# Altium integrated library ON Semi General Purpose Transistors.IntLib: 1679 symbols (part 19 of 36)
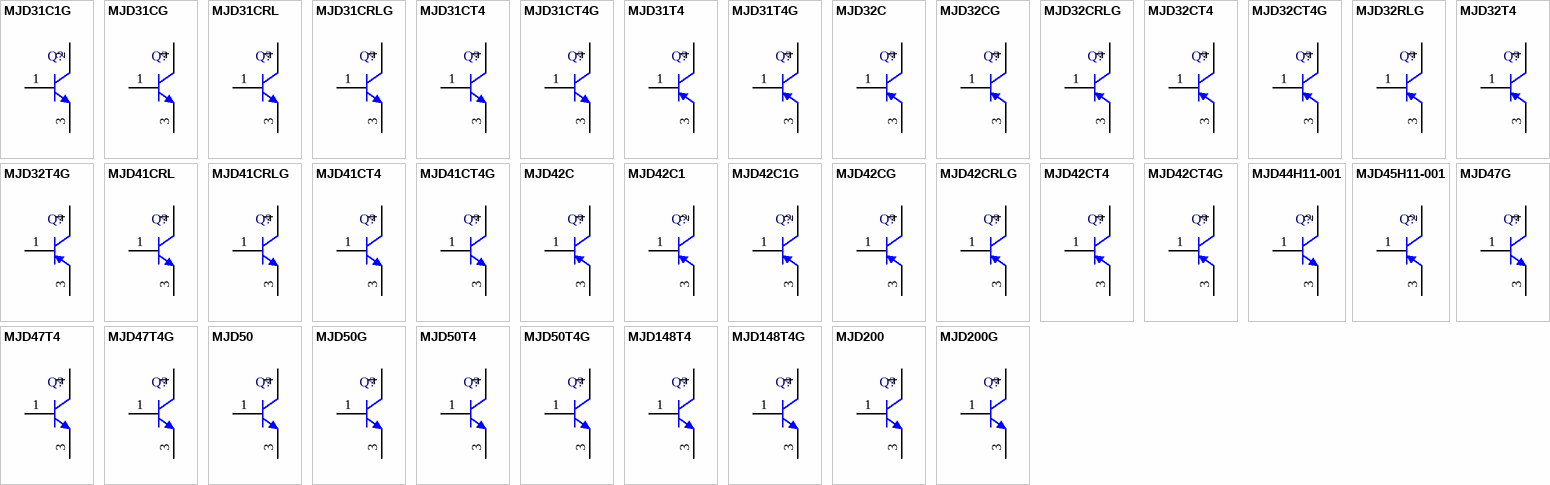
[diagram p63: symbols MJD31C1G to MJD200G]

## MJD41CT4G
designator Q?
Complementary Power Transistor, 3-Pin DPAK, Pb-Free, Tape and Reel; Manufacturer: On Semiconductor; PartNumber: MJD41CT4G; fT Min (MHz): 3; IC Continuous (A): 6; Polarity: NPN; DatasheetVersion: Rev. 12; PackageVersion: Rev. E, 02/2014; PackageReference: DPAK-3-369C-01; PackageDescription: 3-Pin Flange Mount, Body 6.54 x 6.095 mm, Pitch 2.29 mm; Supplier 1: Digi-Key; Supplier Part Number 1: MJD41CT4GOSTR-ND; Supplier 2: Digi-Key; Supplier Part Number 2: MJD41CT4GOSCT-ND; Supplier 3: Digi-Key; Supplier Part Number 3: MJD41CT4GOSDKR-ND; Supplier 4: Newark; Supplier Part Number 4: 10N9473; Supplier 5: Mouser; Supplier Part Number 5: 863-MJD41CT4G; Packing: Tape and Reel; RoHS: TRUE; Mounting Technology: Surface Mount; ComponentLink1Description: Manufacturer URL; ComponentLink1URL: http://www.onsemi.com/; ComponentLink2Description: Datasheet; ComponentLink2URL: http://www.onsemi.cn/pub_link/Collateral/MJD41C-D.PDF; ComponentLink3Description: Package Specification; ComponentLink3URL: http://www.onsemi.cn/pub_link/Collateral/369C.PDF
footprint ONSC-DPAK-3-369C-01_V (DPAK, 3-Leads, Body 6.54x6.095mm, Pitch 2.29mm)
pins: 1 B, 3 E, 4 C

## MJD42C
designator Q?
Complementary Power Transistor, 3-Pin DPAK, Tube; Manufacturer: On Semiconductor; PartNumber: MJD42C; fT Min (MHz): 3; IC Continuous (A): 6; Polarity: PNP; DatasheetVersion: Rev. 12; PackageVersion: Rev. E, 02/2014; PackageReference: DPAK-3-369C-01; PackageDescription: 3-Pin Flange Mount, Body 6.54 x 6.095 mm, Pitch 2.29 mm; Supplier 1: Digi-Key; Supplier Part Number 1: MJD42C-ND; Packing: Tube; RoHS: FALSE; Mounting Technology: Surface Mount; ComponentLink1Description: Manufacturer URL; ComponentLink1URL: http://www.onsemi.com/; ComponentLink2Description: Datasheet; ComponentLink2URL: http://www.onsemi.cn/pub_link/Collateral/MJD41C-D.PDF; ComponentLink3Description: Package Specification; ComponentLink3URL: http://www.onsemi.cn/pub_link/Collateral/369C.PDF
footprint ONSC-DPAK-3-369C-01_V (DPAK, 3-Leads, Body 6.54x6.095mm, Pitch 2.29mm)
pins: 1 B, 3 E, 4 C

## MJD42C1
designator Q?
Complementary Power Transistor, 3-Pin IPAK, Tube; Manufacturer: On Semiconductor; PartNumber: MJD42C1; fT Min (MHz): 3; IC Continuous (A): 6; Polarity: PNP; DatasheetVersion: Rev. 12; PackageVersion: Rev. C, 12/2010; PackageReference: IPAK-3-369D-01; PackageDescription: 3-Pin Flange Mount, Vertical Straight Lead, Body 6.54 x 2.285 mm, Pitch 2.29 mm; Supplier 1: Digi-Key; Supplier Part Number 1: MJD42C1-ND; Supplier 2: Mouser; Supplier Part Number 2: 863-MJD42C1; Packing: Tube; RoHS: FALSE; Mounting Technology: Through Hole; Code_JEDEC: TO-251; ComponentLink1Description: Manufacturer URL; ComponentLink1URL: http://www.onsemi.com/; ComponentLink2Description: Datasheet; ComponentLink2URL: http://www.onsemi.cn/pub_link/Collateral/MJD41C-D.PDF; ComponentLink3Description: Package Specification; ComponentLink3URL: http://www.onsemi.cn/pub_link/Collateral/369D.PDF
footprint ONSC-IPAK-3-369D-01 (FM, 3-Leads, Body 6.75x2.4mm, Pitch 2.29mm)
pins: 1 B, 2 C, 3 E

## MJD42C1G
designator Q?
Complementary Power Transistor, 3-Pin IPAK, Pb-Free, Tube; Manufacturer: On Semiconductor; PartNumber: MJD42C1G; fT Min (MHz): 3; IC Continuous (A): 6; Polarity: PNP; DatasheetVersion: Rev. 12; PackageVersion: Rev. C, 12/2010; PackageReference: IPAK-3-369D-01; PackageDescription: 3-Pin Flange Mount, Vertical Straight Lead, Body 6.54 x 2.285 mm, Pitch 2.29 mm; Supplier 1: Digi-Key; Supplier Part Number 1: MJD42C1G-ND; Supplier 2: Mouser; Supplier Part Number 2: 863-MJD42C1G; Packing: Tube; RoHS: TRUE; Mounting Technology: Through Hole; Code_JEDEC: TO-251; ComponentLink1Description: Manufacturer URL; ComponentLink1URL: http://www.onsemi.com/; ComponentLink2Description: Datasheet; ComponentLink2URL: http://www.onsemi.cn/pub_link/Collateral/MJD41C-D.PDF; ComponentLink3Description: Package Specification; ComponentLink3URL: http://www.onsemi.cn/pub_link/Collateral/369D.PDF
footprint ONSC-IPAK-3-369D-01 (FM, 3-Leads, Body 6.75x2.4mm, Pitch 2.29mm)
pins: 1 B, 2 C, 3 E

## MJD42CG
designator Q?
Complementary Power Transistor, 3-Pin DPAK, Pb-Free, Tube; Manufacturer: On Semiconductor; PartNumber: MJD42CG; fT Min (MHz): 3; IC Continuous (A): 6; Polarity: PNP; DatasheetVersion: Rev. 12; PackageVersion: Rev. E, 02/2014; PackageReference: DPAK-3-369C-01; PackageDescription: 3-Pin Flange Mount, Body 6.54 x 6.095 mm, Pitch 2.29 mm; Supplier 1: Digi-Key; Supplier Part Number 1: MJD42CGOS-ND; Supplier 2: Newark; Supplier Part Number 2: 42K1281; Supplier 3: Mouser; Supplier Part Number 3: 863-MJD42CG; Packing: Tube; RoHS: TRUE; Mounting Technology: Surface Mount; ComponentLink1Description: Manufacturer URL; ComponentLink1URL: http://www.onsemi.com/; ComponentLink2Description: Datasheet; ComponentLink2URL: http://www.onsemi.cn/pub_link/Collateral/MJD41C-D.PDF; ComponentLink3Description: Package Specification; ComponentLink3URL: http://www.onsemi.cn/pub_link/Collateral/369C.PDF
footprint ONSC-DPAK-3-369C-01_V (DPAK, 3-Leads, Body 6.54x6.095mm, Pitch 2.29mm)
pins: 1 B, 3 E, 4 C

## MJD42CRLG
designator Q?
Complementary Power Transistor, 3-Pin DPAK, Pb-Free, Tape and Reel; Manufacturer: On Semiconductor; PartNumber: MJD42CRLG; fT Min (MHz): 3; IC Continuous (A): 6; Polarity: PNP; DatasheetVersion: Rev. 12; PackageVersion: Rev. E, 02/2014; PackageReference: DPAK-3-369C-01; PackageDescription: 3-Pin Flange Mount, Body 6.54 x 6.095 mm, Pitch 2.29 mm; Supplier 1: Digi-Key; Supplier Part Number 1: MJD42CRLG-ND; Supplier 2: Mouser; Supplier Part Number 2: 863-MJD42CRLG; Packing: Tape and Reel; RoHS: TRUE; Mounting Technology: Surface Mount; ComponentLink1Description: Manufacturer URL; ComponentLink1URL: http://www.onsemi.com/; ComponentLink2Description: Datasheet; ComponentLink2URL: http://www.onsemi.cn/pub_link/Collateral/MJD41C-D.PDF; ComponentLink3Description: Package Specification; ComponentLink3URL: http://www.onsemi.cn/pub_link/Collateral/369C.PDF
footprint ONSC-DPAK-3-369C-01_V (DPAK, 3-Leads, Body 6.54x6.095mm, Pitch 2.29mm)
pins: 1 B, 3 E, 4 C

## MJD42CT4
designator Q?
Complementary Power Transistor, 3-Pin DPAK, Tape and Reel; Manufacturer: On Semiconductor; PartNumber: MJD42CT4; fT Min (MHz): 3; IC Continuous (A): 6; Polarity: PNP; DatasheetVersion: Rev. 12; PackageVersion: Rev. E, 02/2014; PackageReference: DPAK-3-369C-01; PackageDescription: 3-Pin Flange Mount, Body 6.54 x 6.095 mm, Pitch 2.29 mm; Supplier 1: Digi-Key; Supplier Part Number 1: MJD42CT4OSCT-ND; Supplier 2: Digi-Key; Supplier Part Number 2: MJD42CT4OSDKR-ND; Packing: Tape and Reel; RoHS: FALSE; Mounting Technology: Surface Mount; ComponentLink1Description: Manufacturer URL; ComponentLink1URL: http://www.onsemi.com/; ComponentLink2Description: Datasheet; ComponentLink2URL: http://www.onsemi.cn/pub_link/Collateral/MJD41C-D.PDF; ComponentLink3Description: Package Specification; ComponentLink3URL: http://www.onsemi.cn/pub_link/Collateral/369C.PDF
footprint ONSC-DPAK-3-369C-01_V (DPAK, 3-Leads, Body 6.54x6.095mm, Pitch 2.29mm)
pins: 1 B, 3 E, 4 C

## MJD42CT4G
designator Q?
Complementary Power Transistor, 3-Pin DPAK, Pb-Free, Tape and Reel; Manufacturer: On Semiconductor; PartNumber: MJD42CT4G; fT Min (MHz): 3; IC Continuous (A): 6; Polarity: PNP; DatasheetVersion: Rev. 12; PackageVersion: Rev. E, 02/2014; PackageReference: DPAK-3-369C-01; PackageDescription: 3-Pin Flange Mount, Body 6.54 x 6.095 mm, Pitch 2.29 mm; Supplier 1: Digi-Key; Supplier Part Number 1: MJD42CT4GOSTR-ND; Supplier 2: Digi-Key; Supplier Part Number 2: MJD42CT4GOSCT-ND; Supplier 3: Digi-Key; Supplier Part Number 3: MJD42CT4GOSDKR-ND; Supplier 4: Farnell; Supplier Part Number 4: 2101378; Supplier 5: Newark; Supplier Part Number 5: 71J5855; Supplier 6: Mouser; Supplier Part Number 6: 863-MJD42CT4G; Packing: Tape and Reel; RoHS: TRUE; Mounting Technology: Surface Mount; ComponentLink1Description: Manufacturer URL; ComponentLink1URL: http://www.onsemi.com/; ComponentLink2Description: Datasheet; ComponentLink2URL: http://www.onsemi.cn/pub_link/Collateral/MJD41C-D.PDF; ComponentLink3Description: Package Specification; ComponentLink3URL: http://www.onsemi.cn/pub_link/Collateral/369C.PDF
footprint ONSC-DPAK-3-369C-01_V (DPAK, 3-Leads, Body 6.54x6.095mm, Pitch 2.29mm)
pins: 1 B, 3 E, 4 C

## MJD44H11-001
designator Q?
Complementary Power Transistor, 3-Pin IPAK, Tube; Manufacturer: On Semiconductor; PartNumber: MJD44H11-001; IC Continuous (A): 8; Polarity: NPN; DatasheetVersion: Rev. 16; PackageVersion: Rev. C, 12/2010; PackageReference: IPAK-3-369D-01; PackageDescription: 3-Pin Flange Mount, Vertical Straight Lead, Body 6.54 x 2.285 mm, Pitch 2.29 mm; Supplier 1: Digi-Key; Supplier Part Number 1: MJD44H11-001OS-ND; Supplier 2: Mouser; Supplier Part Number 2: 863-MJD44H11-001; Packing: Tube; RoHS: FALSE; Mounting Technology: Through Hole; Code_JEDEC: TO-251; ComponentLink1Description: Manufacturer URL; ComponentLink1URL: http://www.onsemi.com/; ComponentLink2Description: Datasheet; ComponentLink2URL: http://www.onsemi.cn/pub_link/Collateral/MJD44H11-D.PDF; ComponentLink3Description: Package Specification; ComponentLink3URL: http://www.onsemi.cn/pub_link/Collateral/369D.PDF
footprint ONSC-IPAK-3-369D-01 (FM, 3-Leads, Body 6.75x2.4mm, Pitch 2.29mm)
pins: 1 B, 2 C, 3 E

## MJD45H11-001
designator Q?
Complementary Power Transistor, 3-Pin IPAK, Tube; Manufacturer: On Semiconductor; PartNumber: MJD45H11-001; IC Continuous (A): 8; Polarity: PNP; DatasheetVersion: Rev. 16; PackageVersion: Rev. C, 12/2010; PackageReference: IPAK-3-369D-01; PackageDescription: 3-Pin Flange Mount, Vertical Straight Lead, Body 6.54 x 2.285 mm, Pitch 2.29 mm; Supplier 1: Digi-Key; Supplier Part Number 1: MJD45H11-001OS-ND; Supplier 2: Mouser; Supplier Part Number 2: 863-MJD45H11-001; Packing: Tube; RoHS: FALSE; Mounting Technology: Through Hole; Code_JEDEC: TO-251; ComponentLink1Description: Manufacturer URL; ComponentLink1URL: http://www.onsemi.com/; ComponentLink2Description: Datasheet; ComponentLink2URL: http://www.onsemi.cn/pub_link/Collateral/MJD44H11-D.PDF; ComponentLink3Description: Package Specification; ComponentLink3URL: http://www.onsemi.cn/pub_link/Collateral/369D.PDF
footprint ONSC-IPAK-3-369D-01 (FM, 3-Leads, Body 6.75x2.4mm, Pitch 2.29mm)
pins: 1 B, 2 C, 3 E

## MJD47G
designator Q?
High Voltage Power Transistor, 3-Pin DPAK, Pb-Free, Tube; Manufacturer: On Semiconductor; PartNumber: MJD47G; fT Min (MHz): 10; IC Continuous (A): 1; Polarity: NPN; DatasheetVersion: Rev. 14; PackageVersion: Rev. E, 02/2014; PackageReference: DPAK-3-369C-01; PackageDescription: 3-Pin Flange Mount, Body 6.54 x 6.095 mm, Pitch 2.29 mm; Supplier 1: Digi-Key; Supplier Part Number 1: MJD47GOS-ND; Supplier 2: Farnell; Supplier Part Number 2: 1147703; Supplier 3: Newark; Supplier Part Number 3: 42K1286; Supplier 4: Mouser; Supplier Part Number 4: 863-MJD47G; Packing: Tube; RoHS: TRUE; Mounting Technology: Surface Mount; ComponentLink1Description: Manufacturer URL; ComponentLink1URL: http://www.onsemi.com/; ComponentLink2Description: Datasheet; ComponentLink2URL: http://www.onsemi.cn/pub_link/Collateral/MJD47-D.PDF; ComponentLink3Description: Package Specification; ComponentLink3URL: http://www.onsemi.cn/pub_link/Collateral/369C.PDF
footprint ONSC-DPAK-3-369C-01_V (DPAK, 3-Leads, Body 6.54x6.095mm, Pitch 2.29mm)
pins: 1 B, 3 E, 4 C

## MJD47T4
designator Q?
High Voltage Power Transistor, 3-Pin DPAK, Tape and Reel; Manufacturer: On Semiconductor; PartNumber: MJD47T4; fT Min (MHz): 10; IC Continuous (A): 1; Polarity: NPN; DatasheetVersion: Rev. 14; PackageVersion: Rev. E, 02/2014; PackageReference: DPAK-3-369C-01; PackageDescription: 3-Pin Flange Mount, Body 6.54 x 6.095 mm, Pitch 2.29 mm; Supplier 1: Digi-Key; Supplier Part Number 1: MJD47T4OSCT-ND; Supplier 2: Digi-Key; Supplier Part Number 2: MJD47T4OSDKR-ND; Packing: Tape and Reel; RoHS: FALSE; Mounting Technology: Surface Mount; ComponentLink1Description: Manufacturer URL; ComponentLink1URL: http://www.onsemi.com/; ComponentLink2Description: Datasheet; ComponentLink2URL: http://www.onsemi.cn/pub_link/Collateral/MJD47-D.PDF; ComponentLink3Description: Package Specification; ComponentLink3URL: http://www.onsemi.cn/pub_link/Collateral/369C.PDF
footprint ONSC-DPAK-3-369C-01_V (DPAK, 3-Leads, Body 6.54x6.095mm, Pitch 2.29mm)
pins: 1 B, 3 E, 4 C

## MJD47T4G
designator Q?
High Voltage Power Transistor, 3-Pin DPAK, Pb-Free, Tape and Reel; Manufacturer: On Semiconductor; PartNumber: MJD47T4G; fT Min (MHz): 10; IC Continuous (A): 1; Polarity: NPN; DatasheetVersion: Rev. 14; PackageVersion: Rev. E, 02/2014; PackageReference: DPAK-3-369C-01; PackageDescription: 3-Pin Flange Mount, Body 6.54 x 6.095 mm, Pitch 2.29 mm; Supplier 1: Digi-Key; Supplier Part Number 1: MJD47T4GOSTR-ND; Supplier 2: Digi-Key; Supplier Part Number 2: MJD47T4GOSCT-ND; Supplier 3: Digi-Key; Supplier Part Number 3: MJD47T4GOSDKR-ND; Supplier 4: Farnell; Supplier Part Number 4: 2369093; Supplier 5: Newark; Supplier Part Number 5: 26K4446; Supplier 6: Newark; Supplier Part Number 6: 10N9475; Supplier 7: Mouser; Supplier Part Number 7: 863-MJD47T4G; Packing: Tape and Reel; RoHS: TRUE; Mounting Technology: Surface Mount; ComponentLink1Description: Manufacturer URL; ComponentLink1URL: http://www.onsemi.com/; ComponentLink2Description: Datasheet; ComponentLink2URL: http://www.onsemi.cn/pub_link/Collateral/MJD47-D.PDF; ComponentLink3Description: Package Specification; ComponentLink3URL: http://www.onsemi.cn/pub_link/Collateral/369C.PDF
footprint ONSC-DPAK-3-369C-01_V (DPAK, 3-Leads, Body 6.54x6.095mm, Pitch 2.29mm)
pins: 1 B, 3 E, 4 C

## MJD50
designator Q?
High Voltage Power Transistor, 3-Pin DPAK, Tube; Manufacturer: On Semiconductor; PartNumber: MJD50; fT Min (MHz): 10; IC Continuous (A): 1; Polarity: NPN; DatasheetVersion: Rev. 14; PackageVersion: Rev. E, 02/2014; PackageReference: DPAK-3-369C-01; PackageDescription: 3-Pin Flange Mount, Body 6.54 x 6.095 mm, Pitch 2.29 mm; Supplier 1: Digi-Key; Supplier Part Number 1: MJD50-ND; Packing: Tube; RoHS: FALSE; Mounting Technology: Surface Mount; ComponentLink1Description: Manufacturer URL; ComponentLink1URL: http://www.onsemi.com/; ComponentLink2Description: Datasheet; ComponentLink2URL: http://www.onsemi.cn/pub_link/Collateral/MJD47-D.PDF; ComponentLink3Description: Package Specification; ComponentLink3URL: http://www.onsemi.cn/pub_link/Collateral/369C.PDF
footprint ONSC-DPAK-3-369C-01_V (DPAK, 3-Leads, Body 6.54x6.095mm, Pitch 2.29mm)
pins: 1 B, 3 E, 4 C

## MJD50G
designator Q?
High Voltage Power Transistor, 3-Pin DPAK, Pb-Free, Tube; Manufacturer: On Semiconductor; PartNumber: MJD50G; fT Min (MHz): 10; IC Continuous (A): 1; Polarity: NPN; DatasheetVersion: Rev. 14; PackageVersion: Rev. E, 02/2014; PackageReference: DPAK-3-369C-01; PackageDescription: 3-Pin Flange Mount, Body 6.54 x 6.095 mm, Pitch 2.29 mm; Supplier 1: Digi-Key; Supplier Part Number 1: MJD50GOS-ND; Supplier 2: Farnell; Supplier Part Number 2: 9555870; Supplier 3: Newark; Supplier Part Number 3: 38K5601; Supplier 4: Newark; Supplier Part Number 4: 42K1287; Supplier 5: Mouser; Supplier Part Number 5: 863-MJD50G; Packing: Tube; RoHS: TRUE; Mounting Technology: Surface Mount; ComponentLink1Description: Manufacturer URL; ComponentLink1URL: http://www.onsemi.com/; ComponentLink2Description: Datasheet; ComponentLink2URL: http://www.onsemi.cn/pub_link/Collateral/MJD47-D.PDF; ComponentLink3Description: Package Specification; ComponentLink3URL: http://www.onsemi.cn/pub_link/Collateral/369C.PDF
footprint ONSC-DPAK-3-369C-01_V (DPAK, 3-Leads, Body 6.54x6.095mm, Pitch 2.29mm)
pins: 1 B, 3 E, 4 C

## MJD50T4
designator Q?
High Voltage Power Transistor, 3-Pin DPAK, Tape and Reel; Manufacturer: On Semiconductor; PartNumber: MJD50T4; fT Min (MHz): 10; IC Continuous (A): 1; Polarity: NPN; DatasheetVersion: Rev. 14; PackageVersion: Rev. E, 02/2014; PackageReference: DPAK-3-369C-01; PackageDescription: 3-Pin Flange Mount, Body 6.54 x 6.095 mm, Pitch 2.29 mm; Supplier 1: Digi-Key; Supplier Part Number 1: MJD50T4OSCT-ND; Supplier 2: Digi-Key; Supplier Part Number 2: MJD50T4OSDKR-ND; Packing: Tape and Reel; RoHS: FALSE; Mounting Technology: Surface Mount; ComponentLink1Description: Manufacturer URL; ComponentLink1URL: http://www.onsemi.com/; ComponentLink2Description: Datasheet; ComponentLink2URL: http://www.onsemi.cn/pub_link/Collateral/MJD47-D.PDF; ComponentLink3Description: Package Specification; ComponentLink3URL: http://www.onsemi.cn/pub_link/Collateral/369C.PDF
footprint ONSC-DPAK-3-369C-01_V (DPAK, 3-Leads, Body 6.54x6.095mm, Pitch 2.29mm)
pins: 1 B, 3 E, 4 C

## MJD50T4G
designator Q?
High Voltage Power Transistor, 3-Pin DPAK, Pb-Free, Tape and Reel; Manufacturer: On Semiconductor; PartNumber: MJD50T4G; fT Min (MHz): 10; IC Continuous (A): 1; Polarity: NPN; DatasheetVersion: Rev. 14; PackageVersion: Rev. E, 02/2014; PackageReference: DPAK-3-369C-01; PackageDescription: 3-Pin Flange Mount, Body 6.54 x 6.095 mm, Pitch 2.29 mm; Supplier 1: Digi-Key; Supplier Part Number 1: MJD50T4GOSTR-ND; Supplier 2: Digi-Key; Supplier Part Number 2: MJD50T4GOSCT-ND; Supplier 3: Digi-Key; Supplier Part Number 3: MJD50T4GOSDKR-ND; Supplier 4: Farnell; Supplier Part Number 4: 2317585; Supplier 5: Newark; Supplier Part Number 5: 06R3469; Supplier 6: Newark; Supplier Part Number 6: 71J5858; Supplier 7: Mouser; Supplier Part Number 7: 863-MJD50T4G; Packing: Tape and Reel; RoHS: TRUE; Mounting Technology: Surface Mount; ComponentLink1Description: Manufacturer URL; ComponentLink1URL: http://www.onsemi.com/; ComponentLink2Description: Datasheet; ComponentLink2URL: http://www.onsemi.cn/pub_link/Collateral/MJD47-D.PDF; ComponentLink3Description: Package Specification; ComponentLink3URL: http://www.onsemi.cn/pub_link/Collateral/369C.PDF
footprint ONSC-DPAK-3-369C-01_V (DPAK, 3-Leads, Body 6.54x6.095mm, Pitch 2.29mm)
pins: 1 B, 3 E, 4 C

## MJD148T4
designator Q?
NPN Silicon Power Transistor, 3-Pin DPAK, Tape and Reel; Manufacturer: On Semiconductor; PartNumber: MJD148T4; Note: 0; fT Min (MHz): 3; IC Continuous (A): 4; DatasheetVersion: Rev. 8; PackageVersion: Rev. E, 02/2014; PackageReference: DPAK-3-369C-01; PackageDescription: 3-Pin Flange Mount, Body 6.54 x 6.095 mm, Pitch 2.29 mm; Packing: Tape and Reel; Polarity: NPN; RoHS: FALSE; Mounting Technology: Surface Mount; ComponentLink1Description: Manufacturer URL; ComponentLink1URL: http://www.onsemi.com/; ComponentLink2Description: Datasheet; ComponentLink2URL: http://www.onsemi.cn/pub_link/Collateral/MJD148-D.PDF; ComponentLink3Description: Package Specification; ComponentLink3URL: http://www.onsemi.cn/pub_link/Collateral/369C.PDF
footprint ONSC-DPAK-3-369C-01_V (DPAK, 3-Leads, Body 6.54x6.095mm, Pitch 2.29mm)
pins: 1 B, 3 E, 4 C

## MJD148T4G
designator Q?
NPN Silicon Power Transistor, 3-Pin DPAK, Pb-Free, Tape and Reel; Manufacturer: On Semiconductor; PartNumber: MJD148T4G; fT Min (MHz): 3; IC Continuous (A): 4; DatasheetVersion: Rev. 8; PackageVersion: Rev. E, 02/2014; PackageReference: DPAK-3-369C-01; PackageDescription: 3-Pin Flange Mount, Body 6.54 x 6.095 mm, Pitch 2.29 mm; Supplier 1: Digi-Key; Supplier Part Number 1: MJD148T4GOSTR-ND; Supplier 2: Digi-Key; Supplier Part Number 2: MJD148T4GOSCT-ND; Supplier 3: Newark; Supplier Part Number 3: 42K1271; Supplier 4: Mouser; Supplier Part Number 4: 863-MJD148T4G; Packing: Tape and Reel; Polarity: NPN; RoHS: TRUE; Mounting Technology: Surface Mount; ComponentLink1Description: Manufacturer URL; ComponentLink1URL: http://www.onsemi.com/; ComponentLink2Description: Datasheet; ComponentLink2URL: http://www.onsemi.cn/pub_link/Collateral/MJD148-D.PDF; ComponentLink3Description: Package Specification; ComponentLink3URL: http://www.onsemi.cn/pub_link/Collateral/369C.PDF
footprint ONSC-DPAK-3-369C-01_V (DPAK, 3-Leads, Body 6.54x6.095mm, Pitch 2.29mm)
pins: 1 B, 3 E, 4 C

## MJD200
designator Q?
Complementary Plastic Power Transistor, NPN Silicon, 3-Pin DPAK, Tube; Manufacturer: On Semiconductor; PartNumber: MJD200; fT Min (MHz): 65; IC Continuous (A): 5; DatasheetVersion: Rev. 13; PackageVersion: Rev. E, 02/2014; PackageReference: DPAK-3-369C-01; PackageDescription: 3-Pin Flange Mount, Body 6.54 x 6.095 mm, Pitch 2.29 mm; Supplier 1: Digi-Key; Supplier Part Number 1: MJD200-ND; Packing: Tube; Polarity: NPN; RoHS: FALSE; Mounting Technology: Surface Mount; ComponentLink1Description: Manufacturer URL; ComponentLink1URL: http://www.onsemi.com/; ComponentLink2Description: Datasheet; ComponentLink2URL: http://www.onsemi.cn/pub_link/Collateral/MJD200-D.PDF; ComponentLink3Description: Package Specification; ComponentLink3URL: http://www.onsemi.cn/pub_link/Collateral/369C.PDF
footprint ONSC-DPAK-3-369C-01_V (DPAK, 3-Leads, Body 6.54x6.095mm, Pitch 2.29mm)
pins: 1 B, 3 E, 4 C

## MJD200G
designator Q?
Complementary Plastic Power Transistor, NPN Silicon, 3-Pin DPAK, Pb-Free, Tube; Manufacturer: On Semiconductor; PartNumber: MJD200G; fT Min (MHz): 65; IC Continuous (A): 5; DatasheetVersion: Rev. 13; PackageVersion: Rev. E, 02/2014; PackageReference: DPAK-3-369C-01; PackageDescription: 3-Pin Flange Mount, Body 6.54 x 6.095 mm, Pitch 2.29 mm; Supplier 1: Digi-Key; Supplier Part Number 1: MJD200GOS-ND; Supplier 2: Newark; Supplier Part Number 2: 45J1484; Supplier 3: Mouser; Supplier Part Number 3: 863-MJD200G; Packing: Tube; Polarity: NPN; RoHS: TRUE; Mounting Technology: Surface Mount; ComponentLink1Description: Manufacturer URL; ComponentLink1URL: http://www.onsemi.com/; ComponentLink2Description: Datasheet; ComponentLink2URL: http://www.onsemi.cn/pub_link/Collateral/MJD200-D.PDF; ComponentLink3Description: Package Specification; ComponentLink3URL: http://www.onsemi.cn/pub_link/Collateral/369C.PDF
footprint ONSC-DPAK-3-369C-01_V (DPAK, 3-Leads, Body 6.54x6.095mm, Pitch 2.29mm)
pins: 1 B, 3 E, 4 C

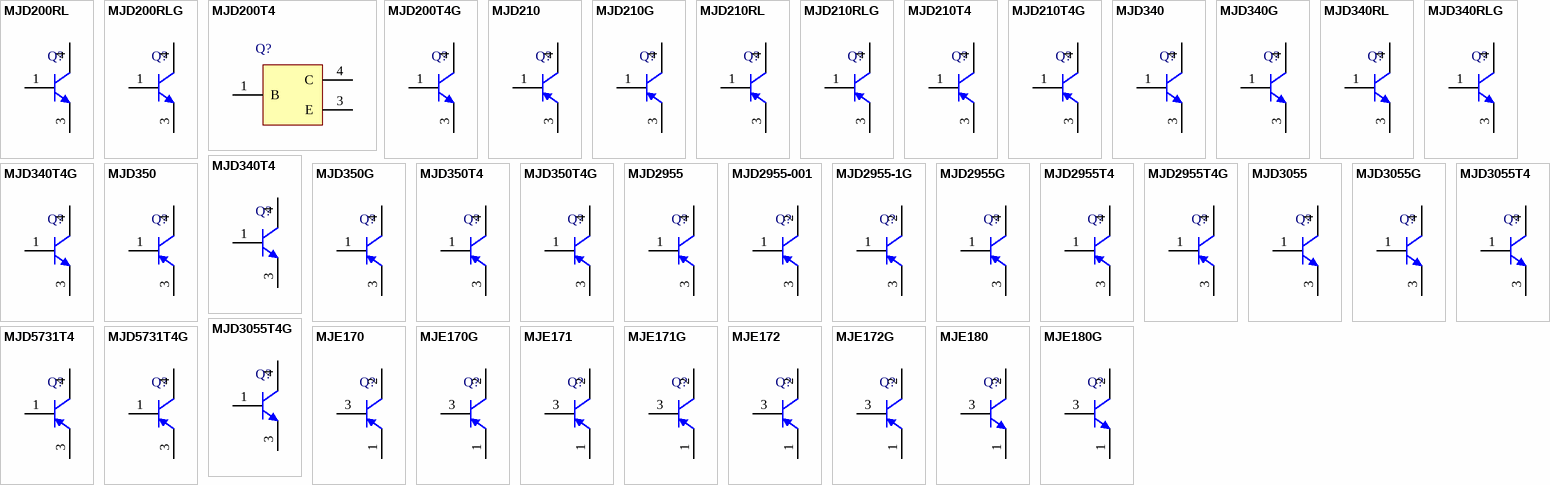
[diagram p24: symbols MJD200RL to MJE180G]

## MJD200RL
designator Q?
Complementary Plastic Power Transistor, NPN Silicon, 3-Pin DPAK, Tape and Reel; Manufacturer: On Semiconductor; PartNumber: MJD200RL; Note: 0; fT Min (MHz): 65; IC Continuous (A): 5; DatasheetVersion: Rev. 13; PackageVersion: Rev. E, 02/2014; PackageReference: DPAK-3-369C-01; PackageDescription: 3-Pin Flange Mount, Body 6.54 x 6.095 mm, Pitch 2.29 mm; Packing: Tape and Reel; Polarity: NPN; RoHS: FALSE; Mounting Technology: Surface Mount; ComponentLink1Description: Manufacturer URL; ComponentLink1URL: http://www.onsemi.com/; ComponentLink2Description: Datasheet; ComponentLink2URL: http://www.onsemi.cn/pub_link/Collateral/MJD200-D.PDF; ComponentLink3Description: Package Specification; ComponentLink3URL: http://www.onsemi.cn/pub_link/Collateral/369C.PDF
footprint ONSC-DPAK-3-369C-01_V (DPAK, 3-Leads, Body 6.54x6.095mm, Pitch 2.29mm)
pins: 1 B, 3 E, 4 C

## MJD200RLG
designator Q?
Complementary Plastic Power Transistor, NPN Silicon, 3-Pin DPAK, Pb-Free, Tape and Reel; Manufacturer: On Semiconductor; PartNumber: MJD200RLG; fT Min (MHz): 65; IC Continuous (A): 5; DatasheetVersion: Rev. 13; PackageVersion: Rev. E, 02/2014; PackageReference: DPAK-3-369C-01; PackageDescription: 3-Pin Flange Mount, Body 6.54 x 6.095 mm, Pitch 2.29 mm; Supplier 1: Digi-Key; Supplier Part Number 1: MJD200RLGOSTR-ND; Supplier 2: Digi-Key; Supplier Part Number 2: MJD200RLGOSCT-ND; Supplier 3: Digi-Key; Supplier Part Number 3: MJD200RLGOSDKR-ND; Supplier 4: Newark; Supplier Part Number 4: 45J1485; Supplier 5: Mouser; Supplier Part Number 5: 863-MJD200RLG; Packing: Tape and Reel; Polarity: NPN; RoHS: TRUE; Mounting Technology: Surface Mount; ComponentLink1Description: Manufacturer URL; ComponentLink1URL: http://www.onsemi.com/; ComponentLink2Description: Datasheet; ComponentLink2URL: http://www.onsemi.cn/pub_link/Collateral/MJD200-D.PDF; ComponentLink3Description: Package Specification; ComponentLink3URL: http://www.onsemi.cn/pub_link/Collateral/369C.PDF
footprint ONSC-DPAK-3-369C-01_V (DPAK, 3-Leads, Body 6.54x6.095mm, Pitch 2.29mm)
pins: 1 B, 3 E, 4 C

## MJD200T4
designator Q?
Complementary Plastic Power Transistor, NPN Silicon, 3-Pin DPAK, Tape and Reel; Manufacturer: On Semiconductor; PartNumber: MJD200T4; fT Min (MHz): 65; IC Continuous (A): 5; DatasheetVersion: Rev. 13; PackageVersion: Rev. E, 02/2014; PackageReference: DPAK-3-369C-01; PackageDescription: 3-Pin Flange Mount, Body 6.54 x 6.095 mm, Pitch 2.29 mm; Supplier 1: Digi-Key; Supplier Part Number 1: MJD200T4OSCT-ND; Supplier 2: Digi-Key; Supplier Part Number 2: MJD200T4OSDKR-ND; Packing: Tape and Reel; Polarity: NPN; RoHS: FALSE; Mounting Technology: Surface Mount; ComponentLink1Description: Manufacturer URL; ComponentLink1URL: http://www.onsemi.com/; ComponentLink2Description: Datasheet; ComponentLink2URL: http://www.onsemi.cn/pub_link/Collateral/MJD200-D.PDF; ComponentLink3Description: Package Specification; ComponentLink3URL: http://www.onsemi.cn/pub_link/Collateral/369C.PDF
footprint ONSC-DPAK-3-369C-01_V (DPAK, 3-Leads, Body 6.54x6.095mm, Pitch 2.29mm)
pins: 1 B, 3 E, 4 C

## MJD200T4G
designator Q?
Complementary Plastic Power Transistor, NPN Silicon, 3-Pin DPAK, Pb-Free, Tape and Reel; Manufacturer: On Semiconductor; PartNumber: MJD200T4G; fT Min (MHz): 65; IC Continuous (A): 5; DatasheetVersion: Rev. 13; PackageVersion: Rev. E, 02/2014; PackageReference: DPAK-3-369C-01; PackageDescription: 3-Pin Flange Mount, Body 6.54 x 6.095 mm, Pitch 2.29 mm; Supplier 1: Digi-Key; Supplier Part Number 1: MJD200T4GOSTR-ND; Supplier 2: Digi-Key; Supplier Part Number 2: MJD200T4GOSCT-ND; Supplier 3: Digi-Key; Supplier Part Number 3: MJD200T4GOSDKR-ND; Supplier 4: Newark; Supplier Part Number 4: 10N9471; Supplier 5: Newark; Supplier Part Number 5: 45J1486; Supplier 6: Mouser; Supplier Part Number 6: 863-MJD200T4G; Packing: Tape and Reel; Polarity: NPN; RoHS: TRUE; Mounting Technology: Surface Mount; ComponentLink1Description: Manufacturer URL; ComponentLink1URL: http://www.onsemi.com/; ComponentLink2Description: Datasheet; ComponentLink2URL: http://www.onsemi.cn/pub_link/Collateral/MJD200-D.PDF; ComponentLink3Description: Package Specification; ComponentLink3URL: http://www.onsemi.cn/pub_link/Collateral/369C.PDF
footprint ONSC-DPAK-3-369C-01_V (DPAK, 3-Leads, Body 6.54x6.095mm, Pitch 2.29mm)
pins: 1 B, 3 E, 4 C

## MJD210
designator Q?
Complementary Plastic Power Transistor, PNP Silicon, 3-Pin DPAK, Tube; Manufacturer: On Semiconductor; PartNumber: MJD210; fT Min (MHz): 65; IC Continuous (A): 5; DatasheetVersion: Rev. 13; PackageVersion: Rev. E, 02/2014; PackageReference: DPAK-3-369C-01; PackageDescription: 3-Pin Flange Mount, Body 6.54 x 6.095 mm, Pitch 2.29 mm; Supplier 1: Digi-Key; Supplier Part Number 1: MJD210-ND; Packing: Tube; Polarity: PNP; RoHS: FALSE; Mounting Technology: Surface Mount; ComponentLink1Description: Manufacturer URL; ComponentLink1URL: http://www.onsemi.com/; ComponentLink2Description: Datasheet; ComponentLink2URL: http://www.onsemi.cn/pub_link/Collateral/MJD200-D.PDF; ComponentLink3Description: Package Specification; ComponentLink3URL: http://www.onsemi.cn/pub_link/Collateral/369C.PDF
footprint ONSC-DPAK-3-369C-01_V (DPAK, 3-Leads, Body 6.54x6.095mm, Pitch 2.29mm)
pins: 1 B, 3 E, 4 C

## MJD210G
designator Q?
Complementary Plastic Power Transistor, PNP Silicon, 3-Pin DPAK, Pb-Free, Tube; Manufacturer: On Semiconductor; PartNumber: MJD210G; fT Min (MHz): 65; IC Continuous (A): 5; DatasheetVersion: Rev. 13; PackageVersion: Rev. E, 02/2014; PackageReference: DPAK-3-369C-01; PackageDescription: 3-Pin Flange Mount, Body 6.54 x 6.095 mm, Pitch 2.29 mm; Supplier 1: Digi-Key; Supplier Part Number 1: MJD210GOS-ND; Supplier 2: Farnell; Supplier Part Number 2: 1459085; Supplier 3: Newark; Supplier Part Number 3: 42K1272; Supplier 4: Mouser; Supplier Part Number 4: 863-MJD210G; Packing: Tube; Polarity: PNP; RoHS: TRUE; Mounting Technology: Surface Mount; ComponentLink1Description: Manufacturer URL; ComponentLink1URL: http://www.onsemi.com/; ComponentLink2Description: Datasheet; ComponentLink2URL: http://www.onsemi.cn/pub_link/Collateral/MJD200-D.PDF; ComponentLink3Description: Package Specification; ComponentLink3URL: http://www.onsemi.cn/pub_link/Collateral/369C.PDF
footprint ONSC-DPAK-3-369C-01_V (DPAK, 3-Leads, Body 6.54x6.095mm, Pitch 2.29mm)
pins: 1 B, 3 E, 4 C

## MJD210RL
designator Q?
Complementary Plastic Power Transistor, PNP Silicon, 3-Pin DPAK, Tape and Reel; Manufacturer: On Semiconductor; PartNumber: MJD210RL; fT Min (MHz): 65; IC Continuous (A): 5; DatasheetVersion: Rev. 13; PackageVersion: Rev. E, 02/2014; PackageReference: DPAK-3-369C-01; PackageDescription: 3-Pin Flange Mount, Body 6.54 x 6.095 mm, Pitch 2.29 mm; Supplier 1: Digi-Key; Supplier Part Number 1: MJD210RL-ND; Packing: Tape and Reel; Polarity: PNP; RoHS: FALSE; Mounting Technology: Surface Mount; ComponentLink1Description: Manufacturer URL; ComponentLink1URL: http://www.onsemi.com/; ComponentLink2Description: Datasheet; ComponentLink2URL: http://www.onsemi.cn/pub_link/Collateral/MJD200-D.PDF; ComponentLink3Description: Package Specification; ComponentLink3URL: http://www.onsemi.cn/pub_link/Collateral/369C.PDF
footprint ONSC-DPAK-3-369C-01_V (DPAK, 3-Leads, Body 6.54x6.095mm, Pitch 2.29mm)
pins: 1 B, 3 E, 4 C

## MJD210RLG
designator Q?
Complementary Plastic Power Transistor, PNP Silicon, 3-Pin DPAK, Pb-Free, Tape and Reel; Manufacturer: On Semiconductor; PartNumber: MJD210RLG; fT Min (MHz): 65; IC Continuous (A): 5; DatasheetVersion: Rev. 13; PackageVersion: Rev. E, 02/2014; PackageReference: DPAK-3-369C-01; PackageDescription: 3-Pin Flange Mount, Body 6.54 x 6.095 mm, Pitch 2.29 mm; Supplier 1: Digi-Key; Supplier Part Number 1: MJD210RLGOSTR-ND; Supplier 2: Digi-Key; Supplier Part Number 2: MJD210RLGOSCT-ND; Supplier 3: Farnell; Supplier Part Number 3: 1861213; Supplier 4: Newark; Supplier Part Number 4: 09R9435; Supplier 5: Mouser; Supplier Part Number 5: 863-MJD210RLG; Packing: Tape and Reel; Polarity: PNP; RoHS: TRUE; Mounting Technology: Surface Mount; ComponentLink1Description: Manufacturer URL; ComponentLink1URL: http://www.onsemi.com/; ComponentLink2Description: Datasheet; ComponentLink2URL: http://www.onsemi.cn/pub_link/Collateral/MJD200-D.PDF; ComponentLink3Description: Package Specification; ComponentLink3URL: http://www.onsemi.cn/pub_link/Collateral/369C.PDF
footprint ONSC-DPAK-3-369C-01_V (DPAK, 3-Leads, Body 6.54x6.095mm, Pitch 2.29mm)
pins: 1 B, 3 E, 4 C

## MJD210T4
designator Q?
Complementary Plastic Power Transistor, PNP Silicon, 3-Pin DPAK, Tape and Reel; Manufacturer: On Semiconductor; PartNumber: MJD210T4; fT Min (MHz): 65; IC Continuous (A): 5; DatasheetVersion: Rev. 13; PackageVersion: Rev. E, 02/2014; PackageReference: DPAK-3-369C-01; PackageDescription: 3-Pin Flange Mount, Body 6.54 x 6.095 mm, Pitch 2.29 mm; Supplier 1: Digi-Key; Supplier Part Number 1: MJD210T4OSCT-ND; Supplier 2: Digi-Key; Supplier Part Number 2: MJD210T4OSDKR-ND; Packing: Tape and Reel; Polarity: PNP; RoHS: FALSE; Mounting Technology: Surface Mount; ComponentLink1Description: Manufacturer URL; ComponentLink1URL: http://www.onsemi.com/; ComponentLink2Description: Datasheet; ComponentLink2URL: http://www.onsemi.cn/pub_link/Collateral/MJD200-D.PDF; ComponentLink3Description: Package Specification; ComponentLink3URL: http://www.onsemi.cn/pub_link/Collateral/369C.PDF
footprint ONSC-DPAK-3-369C-01_V (DPAK, 3-Leads, Body 6.54x6.095mm, Pitch 2.29mm)
pins: 1 B, 3 E, 4 C

## MJD210T4G
designator Q?
Complementary Plastic Power Transistor, PNP Silicon, 3-Pin DPAK, Pb-Free, Tape and Reel; Manufacturer: On Semiconductor; PartNumber: MJD210T4G; fT Min (MHz): 65; IC Continuous (A): 5; DatasheetVersion: Rev. 13; PackageVersion: Rev. E, 02/2014; PackageReference: DPAK-3-369C-01; PackageDescription: 3-Pin Flange Mount, Body 6.54 x 6.095 mm, Pitch 2.29 mm; Supplier 1: Digi-Key; Supplier Part Number 1: MJD210T4GOSTR-ND; Supplier 2: Digi-Key; Supplier Part Number 2: MJD210T4GOSCT-ND; Supplier 3: Digi-Key; Supplier Part Number 3: MJD210T4GOSDKR-ND; Supplier 4: Newark; Supplier Part Number 4: 10N9472; Supplier 5: Newark; Supplier Part Number 5: 45J1487; Supplier 6: Mouser; Supplier Part Number 6: 863-MJD210T4G; Packing: Tape and Reel; Polarity: PNP; RoHS: TRUE; Mounting Technology: Surface Mount; ComponentLink1Description: Manufacturer URL; ComponentLink1URL: http://www.onsemi.com/; ComponentLink2Description: Datasheet; ComponentLink2URL: http://www.onsemi.cn/pub_link/Collateral/MJD200-D.PDF; ComponentLink3Description: Package Specification; ComponentLink3URL: http://www.onsemi.cn/pub_link/Collateral/369C.PDF
footprint ONSC-DPAK-3-369C-01_V (DPAK, 3-Leads, Body 6.54x6.095mm, Pitch 2.29mm)
pins: 1 B, 3 E, 4 C

## MJD340
designator Q?
High Voltage Power Transistor, 3-Pin DPAK, Tube; Manufacturer: On Semiconductor; PartNumber: MJD340; fT Min (MHz): 10; IC Continuous (A): 0.5; Polarity: NPN; DatasheetVersion: Rev. 11; PackageVersion: Rev. E, 02/2014; PackageReference: DPAK-3-369C-01; PackageDescription: 3-Pin Flange Mount, Body 6.54 x 6.095 mm, Pitch 2.29 mm; Supplier 1: Digi-Key; Supplier Part Number 1: MJD340-ND; Packing: Tube; RoHS: FALSE; Mounting Technology: Surface Mount; ComponentLink1Description: Manufacturer URL; ComponentLink1URL: http://www.onsemi.com/; ComponentLink2Description: Datasheet; ComponentLink2URL: http://www.onsemi.cn/pub_link/Collateral/MJD340-D.PDF; ComponentLink3Description: Package Specification; ComponentLink3URL: http://www.onsemi.cn/pub_link/Collateral/369C.PDF
footprint ONSC-DPAK-3-369C-01_V (DPAK, 3-Leads, Body 6.54x6.095mm, Pitch 2.29mm)
pins: 1 B, 3 E, 4 C

## MJD340G
designator Q?
High Voltage Power Transistor, 3-Pin DPAK, Pb-Free, Tube; Manufacturer: On Semiconductor; PartNumber: MJD340G; fT Min (MHz): 10; IC Continuous (A): 0.5; Polarity: NPN; DatasheetVersion: Rev. 11; PackageVersion: Rev. E, 02/2014; PackageReference: DPAK-3-369C-01; PackageDescription: 3-Pin Flange Mount, Body 6.54 x 6.095 mm, Pitch 2.29 mm; Supplier 1: Digi-Key; Supplier Part Number 1: MJD340GOS-ND; Supplier 2: Farnell; Supplier Part Number 2: 1611221; Supplier 3: Newark; Supplier Part Number 3: 98H0736; Supplier 4: Mouser; Supplier Part Number 4: 863-MJD340G; Packing: Tube; RoHS: TRUE; Mounting Technology: Surface Mount; ComponentLink1Description: Manufacturer URL; ComponentLink1URL: http://www.onsemi.com/; ComponentLink2Description: Datasheet; ComponentLink2URL: http://www.onsemi.cn/pub_link/Collateral/MJD340-D.PDF; ComponentLink3Description: Package Specification; ComponentLink3URL: http://www.onsemi.cn/pub_link/Collateral/369C.PDF
footprint ONSC-DPAK-3-369C-01_V (DPAK, 3-Leads, Body 6.54x6.095mm, Pitch 2.29mm)
pins: 1 B, 3 E, 4 C

## MJD340RL
designator Q?
High Voltage Power Transistor, 3-Pin DPAK, Tape and Reel; Manufacturer: On Semiconductor; PartNumber: MJD340RL; Note: 0; fT Min (MHz): 10; IC Continuous (A): 0.5; Polarity: NPN; DatasheetVersion: Rev. 11; PackageVersion: Rev. E, 02/2014; PackageReference: DPAK-3-369C-01; PackageDescription: 3-Pin Flange Mount, Body 6.54 x 6.095 mm, Pitch 2.29 mm; Packing: Tape and Reel; RoHS: FALSE; Mounting Technology: Surface Mount; ComponentLink1Description: Manufacturer URL; ComponentLink1URL: http://www.onsemi.com/; ComponentLink2Description: Datasheet; ComponentLink2URL: http://www.onsemi.cn/pub_link/Collateral/MJD340-D.PDF; ComponentLink3Description: Package Specification; ComponentLink3URL: http://www.onsemi.cn/pub_link/Collateral/369C.PDF
footprint ONSC-DPAK-3-369C-01_V (DPAK, 3-Leads, Body 6.54x6.095mm, Pitch 2.29mm)
pins: 1 B, 3 E, 4 C

## MJD340RLG
designator Q?
High Voltage Power Transistor, 3-Pin DPAK, Pb-Free, Tape and Reel; Manufacturer: On Semiconductor; PartNumber: MJD340RLG; fT Min (MHz): 10; IC Continuous (A): 0.5; Polarity: NPN; DatasheetVersion: Rev. 11; PackageVersion: Rev. E, 02/2014; PackageReference: DPAK-3-369C-01; PackageDescription: 3-Pin Flange Mount, Body 6.54 x 6.095 mm, Pitch 2.29 mm; Supplier 1: Digi-Key; Supplier Part Number 1: MJD340RLGOSTR-ND; Supplier 2: Digi-Key; Supplier Part Number 2: MJD340RLGOSCT-ND; Supplier 3: Digi-Key; Supplier Part Number 3: MJD340RLGOSDKR-ND; Supplier 4: Newark; Supplier Part Number 4: 45J1492; Supplier 5: Mouser; Supplier Part Number 5: 863-MJD340RLG; Packing: Tape and Reel; RoHS: TRUE; Mounting Technology: Surface Mount; ComponentLink1Description: Manufacturer URL; ComponentLink1URL: http://www.onsemi.com/; ComponentLink2Description: Datasheet; ComponentLink2URL: http://www.onsemi.cn/pub_link/Collateral/MJD340-D.PDF; ComponentLink3Description: Package Specification; ComponentLink3URL: http://www.onsemi.cn/pub_link/Collateral/369C.PDF
footprint ONSC-DPAK-3-369C-01_V (DPAK, 3-Leads, Body 6.54x6.095mm, Pitch 2.29mm)
pins: 1 B, 3 E, 4 C

## MJD340T4
designator Q?
High Voltage Power Transistor, 3-Pin DPAK, Tape and Reel; Manufacturer: On Semiconductor; PartNumber: MJD340T4; fT Min (MHz): 10; IC Continuous (A): 0.5; Polarity: NPN; DatasheetVersion: Rev. 11; PackageVersion: Rev. E, 02/2014; PackageReference: DPAK-3-369C-01; PackageDescription: 3-Pin Flange Mount, Body 6.54 x 6.095 mm, Pitch 2.29 mm; Supplier 1: Digi-Key; Supplier Part Number 1: MJD340T4OSCT-ND; Supplier 2: Digi-Key; Supplier Part Number 2: MJD340T4OSDKR-ND; Packing: Tape and Reel; RoHS: FALSE; Mounting Technology: Surface Mount; ComponentLink1Description: Manufacturer URL; ComponentLink1URL: http://www.onsemi.com/; ComponentLink2Description: Datasheet; ComponentLink2URL: http://www.onsemi.cn/pub_link/Collateral/MJD340-D.PDF; ComponentLink3Description: Package Specification; ComponentLink3URL: http://www.onsemi.cn/pub_link/Collateral/369C.PDF
footprint ONSC-DPAK-3-369C-01_V (DPAK, 3-Leads, Body 6.54x6.095mm, Pitch 2.29mm)
pins: 1 B, 3 E, 4 C

## MJD340T4G
designator Q?
High Voltage Power Transistor, 3-Pin DPAK, Pb-Free, Tape and Reel; Manufacturer: On Semiconductor; PartNumber: MJD340T4G; fT Min (MHz): 10; IC Continuous (A): 0.5; Polarity: NPN; DatasheetVersion: Rev. 11; PackageVersion: Rev. E, 02/2014; PackageReference: DPAK-3-369C-01; PackageDescription: 3-Pin Flange Mount, Body 6.54 x 6.095 mm, Pitch 2.29 mm; Supplier 1: Digi-Key; Supplier Part Number 1: MJD340T4GOSTR-ND; Supplier 2: Digi-Key; Supplier Part Number 2: MJD340T4GOSCT-ND; Supplier 3: Digi-Key; Supplier Part Number 3: MJD340T4GOSDKR-ND; Supplier 4: Newark; Supplier Part Number 4: 71J5851; Supplier 5: Mouser; Supplier Part Number 5: 863-MJD340T4G; Packing: Tape and Reel; RoHS: TRUE; Mounting Technology: Surface Mount; ComponentLink1Description: Manufacturer URL; ComponentLink1URL: http://www.onsemi.com/; ComponentLink2Description: Datasheet; ComponentLink2URL: http://www.onsemi.cn/pub_link/Collateral/MJD340-D.PDF; ComponentLink3Description: Package Specification; ComponentLink3URL: http://www.onsemi.cn/pub_link/Collateral/369C.PDF
footprint ONSC-DPAK-3-369C-01_V (DPAK, 3-Leads, Body 6.54x6.095mm, Pitch 2.29mm)
pins: 1 B, 3 E, 4 C

## MJD350
designator Q?
High Voltage Power Transistor, 3-Pin DPAK, Tube; Manufacturer: On Semiconductor; PartNumber: MJD350; Note: 0; fT Min (MHz): 10; IC Continuous (A): 0.5; Polarity: PNP; DatasheetVersion: Rev. 11; PackageVersion: Rev. E, 02/2014; PackageReference: DPAK-3-369C-01; PackageDescription: 3-Pin Flange Mount, Body 6.54 x 6.095 mm, Pitch 2.29 mm; Packing: Tube; RoHS: FALSE; Mounting Technology: Surface Mount; ComponentLink1Description: Manufacturer URL; ComponentLink1URL: http://www.onsemi.com/; ComponentLink2Description: Datasheet; ComponentLink2URL: http://www.onsemi.cn/pub_link/Collateral/MJD340-D.PDF; ComponentLink3Description: Package Specification; ComponentLink3URL: http://www.onsemi.cn/pub_link/Collateral/369C.PDF
footprint ONSC-DPAK-3-369C-01_V (DPAK, 3-Leads, Body 6.54x6.095mm, Pitch 2.29mm)
pins: 1 B, 3 E, 4 C

## MJD350G
designator Q?
High Voltage Power Transistor, 3-Pin DPAK, Pb-Free, Tube; Manufacturer: On Semiconductor; PartNumber: MJD350G; fT Min (MHz): 10; IC Continuous (A): 0.5; Polarity: PNP; DatasheetVersion: Rev. 11; PackageVersion: Rev. E, 02/2014; PackageReference: DPAK-3-369C-01; PackageDescription: 3-Pin Flange Mount, Body 6.54 x 6.095 mm, Pitch 2.29 mm; Supplier 1: Digi-Key; Supplier Part Number 1: MJD350GOS-ND; Supplier 2: Mouser; Supplier Part Number 2: 863-MJD350G; Packing: Tube; RoHS: TRUE; Mounting Technology: Surface Mount; ComponentLink1Description: Manufacturer URL; ComponentLink1URL: http://www.onsemi.com/; ComponentLink2Description: Datasheet; ComponentLink2URL: http://www.onsemi.cn/pub_link/Collateral/MJD340-D.PDF; ComponentLink3Description: Package Specification; ComponentLink3URL: http://www.onsemi.cn/pub_link/Collateral/369C.PDF
footprint ONSC-DPAK-3-369C-01_V (DPAK, 3-Leads, Body 6.54x6.095mm, Pitch 2.29mm)
pins: 1 B, 3 E, 4 C

## MJD350T4
designator Q?
High Voltage Power Transistor, 3-Pin DPAK, Tape and Reel; Manufacturer: On Semiconductor; PartNumber: MJD350T4; fT Min (MHz): 10; IC Continuous (A): 0.5; Polarity: PNP; DatasheetVersion: Rev. 11; PackageVersion: Rev. E, 02/2014; PackageReference: DPAK-3-369C-01; PackageDescription: 3-Pin Flange Mount, Body 6.54 x 6.095 mm, Pitch 2.29 mm; Supplier 1: Digi-Key; Supplier Part Number 1: MJD350T4OSCT-ND; Supplier 2: Digi-Key; Supplier Part Number 2: MJD350T4OSDKR-ND; Packing: Tape and Reel; RoHS: FALSE; Mounting Technology: Surface Mount; ComponentLink1Description: Manufacturer URL; ComponentLink1URL: http://www.onsemi.com/; ComponentLink2Description: Datasheet; ComponentLink2URL: http://www.onsemi.cn/pub_link/Collateral/MJD340-D.PDF; ComponentLink3Description: Package Specification; ComponentLink3URL: http://www.onsemi.cn/pub_link/Collateral/369C.PDF
footprint ONSC-DPAK-3-369C-01_V (DPAK, 3-Leads, Body 6.54x6.095mm, Pitch 2.29mm)
pins: 1 B, 3 E, 4 C

## MJD350T4G
designator Q?
High Voltage Power Transistor, 3-Pin DPAK, Pb-Free, Tape and Reel; Manufacturer: On Semiconductor; PartNumber: MJD350T4G; fT Min (MHz): 10; IC Continuous (A): 0.5; Polarity: PNP; DatasheetVersion: Rev. 11; PackageVersion: Rev. E, 02/2014; PackageReference: DPAK-3-369C-01; PackageDescription: 3-Pin Flange Mount, Body 6.54 x 6.095 mm, Pitch 2.29 mm; Supplier 1: Digi-Key; Supplier Part Number 1: MJD350T4GOSTR-ND; Supplier 2: Digi-Key; Supplier Part Number 2: MJD350T4GOSCT-ND; Supplier 3: Digi-Key; Supplier Part Number 3: MJD350T4GOSDKR-ND; Supplier 4: Farnell; Supplier Part Number 4: 1155565; Supplier 5: Newark; Supplier Part Number 5: 71J5852; Supplier 6: Mouser; Supplier Part Number 6: 863-MJD350T4G; Packing: Tape and Reel; RoHS: TRUE; Mounting Technology: Surface Mount; ComponentLink1Description: Manufacturer URL; ComponentLink1URL: http://www.onsemi.com/; ComponentLink2Description: Datasheet; ComponentLink2URL: http://www.onsemi.cn/pub_link/Collateral/MJD340-D.PDF; ComponentLink3Description: Package Specification; ComponentLink3URL: http://www.onsemi.cn/pub_link/Collateral/369C.PDF
footprint ONSC-DPAK-3-369C-01_V (DPAK, 3-Leads, Body 6.54x6.095mm, Pitch 2.29mm)
pins: 1 B, 3 E, 4 C

## MJD2955
designator Q?
Complementary Power Transistor, 3-Pin DPAK, Tube; Manufacturer: On Semiconductor; PartNumber: MJD2955; fT Min (MHz): 2; IC Continuous (A): 10; Polarity: PNP; DatasheetVersion: Rev. 13; PackageVersion: Rev. E, 02/2014; PackageReference: DPAK-3-369C-01; PackageDescription: 3-Pin Flange Mount, Body 6.54 x 6.095 mm, Pitch 2.29 mm; Supplier 1: Digi-Key; Supplier Part Number 1: MJD2955-ND; Packing: Tube; RoHS: FALSE; Mounting Technology: Surface Mount; ComponentLink1Description: Manufacturer URL; ComponentLink1URL: http://www.onsemi.com/; ComponentLink2Description: Datasheet; ComponentLink2URL: http://www.onsemi.cn/pub_link/Collateral/MJD2955-D.PDF; ComponentLink3Description: Package Specification; ComponentLink3URL: http://www.onsemi.cn/pub_link/Collateral/369C.PDF
footprint ONSC-DPAK-3-369C-01_V (DPAK, 3-Leads, Body 6.54x6.095mm, Pitch 2.29mm)
pins: 1 B, 3 E, 4 C

## MJD2955-001
designator Q?
Complementary Power Transistor, 3-Pin IPAK, Tube; Manufacturer: On Semiconductor; PartNumber: MJD2955-001; fT Min (MHz): 2; IC Continuous (A): 10; Polarity: PNP; DatasheetVersion: Rev. 13; PackageVersion: Rev. C, 12/2010; PackageReference: IPAK-3-369D-01; PackageDescription: 3-Pin Flange Mount, Vertical Straight Lead, Body 6.54 x 2.285 mm, Pitch 2.29 mm; Supplier 1: Digi-Key; Supplier Part Number 1: MJD2955-001-ND; Supplier 2: Mouser; Supplier Part Number 2: 863-MJD2955-001; Packing: Tube; RoHS: FALSE; Mounting Technology: Through Hole; Code_JEDEC: TO-251; ComponentLink1Description: Manufacturer URL; ComponentLink1URL: http://www.onsemi.com/; ComponentLink2Description: Datasheet; ComponentLink2URL: http://www.onsemi.cn/pub_link/Collateral/MJD2955-D.PDF; ComponentLink3Description: Package Specification; ComponentLink3URL: http://www.onsemi.cn/pub_link/Collateral/369D.PDF
footprint ONSC-IPAK-3-369D-01 (FM, 3-Leads, Body 6.75x2.4mm, Pitch 2.29mm)
pins: 1 B, 2 C, 3 E

## MJD2955-1G
designator Q?
Complementary Power Transistor, 3-Pin IPAK, Pb-Free, Tube; Manufacturer: On Semiconductor; PartNumber: MJD2955-1G; fT Min (MHz): 2; IC Continuous (A): 10; Polarity: PNP; DatasheetVersion: Rev. 13; PackageVersion: Rev. C, 12/2010; PackageReference: IPAK-3-369D-01; PackageDescription: 3-Pin Flange Mount, Vertical Straight Lead, Body 6.54 x 2.285 mm, Pitch 2.29 mm; Supplier 1: Digi-Key; Supplier Part Number 1: MJD2955-1G-ND; Supplier 2: Newark; Supplier Part Number 2: 42K1275; Supplier 3: Mouser; Supplier Part Number 3: 863-MJD2955-1G; Packing: Tube; RoHS: TRUE; Mounting Technology: Through Hole; Code_JEDEC: TO-251; ComponentLink1Description: Manufacturer URL; ComponentLink1URL: http://www.onsemi.com/; ComponentLink2Description: Datasheet; ComponentLink2URL: http://www.onsemi.cn/pub_link/Collateral/MJD2955-D.PDF; ComponentLink3Description: Package Specification; ComponentLink3URL: http://www.onsemi.cn/pub_link/Collateral/369D.PDF
footprint ONSC-IPAK-3-369D-01 (FM, 3-Leads, Body 6.75x2.4mm, Pitch 2.29mm)
pins: 1 B, 2 C, 3 E

## MJD2955G
designator Q?
Complementary Power Transistor, 3-Pin DPAK, Pb-Free, Tube; Manufacturer: On Semiconductor; PartNumber: MJD2955G; fT Min (MHz): 2; IC Continuous (A): 10; Polarity: PNP; DatasheetVersion: Rev. 13; PackageVersion: Rev. E, 02/2014; PackageReference: DPAK-3-369C-01; PackageDescription: 3-Pin Flange Mount, Body 6.54 x 6.095 mm, Pitch 2.29 mm; Supplier 1: Digi-Key; Supplier Part Number 1: MJD2955GOS-ND; Supplier 2: Newark; Supplier Part Number 2: 45J1488; Supplier 3: Mouser; Supplier Part Number 3: 863-MJD2955G; Packing: Tube; RoHS: TRUE; Mounting Technology: Surface Mount; ComponentLink1Description: Manufacturer URL; ComponentLink1URL: http://www.onsemi.com/; ComponentLink2Description: Datasheet; ComponentLink2URL: http://www.onsemi.cn/pub_link/Collateral/MJD2955-D.PDF; ComponentLink3Description: Package Specification; ComponentLink3URL: http://www.onsemi.cn/pub_link/Collateral/369C.PDF
footprint ONSC-DPAK-3-369C-01_V (DPAK, 3-Leads, Body 6.54x6.095mm, Pitch 2.29mm)
pins: 1 B, 3 E, 4 C

## MJD2955T4
designator Q?
Complementary Power Transistor, 3-Pin DPAK, Tape and Reel; Manufacturer: On Semiconductor; PartNumber: MJD2955T4; fT Min (MHz): 2; IC Continuous (A): 10; Polarity: PNP; DatasheetVersion: Rev. 13; PackageVersion: Rev. E, 02/2014; PackageReference: DPAK-3-369C-01; PackageDescription: 3-Pin Flange Mount, Body 6.54 x 6.095 mm, Pitch 2.29 mm; Supplier 1: Digi-Key; Supplier Part Number 1: MJD2955T4OSCT-ND; Supplier 2: Digi-Key; Supplier Part Number 2: MJD2955T4OSDKR-ND; Packing: Tape and Reel; RoHS: FALSE; Mounting Technology: Surface Mount; ComponentLink1Description: Manufacturer URL; ComponentLink1URL: http://www.onsemi.com/; ComponentLink2Description: Datasheet; ComponentLink2URL: http://www.onsemi.cn/pub_link/Collateral/MJD2955-D.PDF; ComponentLink3Description: Package Specification; ComponentLink3URL: http://www.onsemi.cn/pub_link/Collateral/369C.PDF
footprint ONSC-DPAK-3-369C-01_V (DPAK, 3-Leads, Body 6.54x6.095mm, Pitch 2.29mm)
pins: 1 B, 3 E, 4 C

## MJD2955T4G
designator Q?
Complementary Power Transistor, 3-Pin DPAK, Pb-Free, Tape and Reel; Manufacturer: On Semiconductor; PartNumber: MJD2955T4G; fT Min (MHz): 2; IC Continuous (A): 10; Polarity: PNP; DatasheetVersion: Rev. 13; PackageVersion: Rev. E, 02/2014; PackageReference: DPAK-3-369C-01; PackageDescription: 3-Pin Flange Mount, Body 6.54 x 6.095 mm, Pitch 2.29 mm; Supplier 1: Digi-Key; Supplier Part Number 1: MJD2955T4GOSTR-ND; Supplier 2: Digi-Key; Supplier Part Number 2: MJD2955T4GOSCT-ND; Supplier 3: Digi-Key; Supplier Part Number 3: MJD2955T4GOSDKR-ND; Supplier 4: Farnell; Supplier Part Number 4: 1861215; Supplier 5: Newark; Supplier Part Number 5: 09R9437; Supplier 6: Newark; Supplier Part Number 6: 45J1489; Supplier 7: Mouser; Supplier Part Number 7: 863-MJD2955T4G; Packing: Tape and Reel; RoHS: TRUE; Mounting Technology: Surface Mount; ComponentLink1Description: Manufacturer URL; ComponentLink1URL: http://www.onsemi.com/; ComponentLink2Description: Datasheet; ComponentLink2URL: http://www.onsemi.cn/pub_link/Collateral/MJD2955-D.PDF; ComponentLink3Description: Package Specification; ComponentLink3URL: http://www.onsemi.cn/pub_link/Collateral/369C.PDF
footprint ONSC-DPAK-3-369C-01_V (DPAK, 3-Leads, Body 6.54x6.095mm, Pitch 2.29mm)
pins: 1 B, 3 E, 4 C

## MJD3055
designator Q?
Complementary Power Transistor, 3-Pin DPAK, Tube; Manufacturer: On Semiconductor; PartNumber: MJD3055; fT Min (MHz): 2; IC Continuous (A): 10; Polarity: NPN; DatasheetVersion: Rev. 13; PackageVersion: Rev. E, 02/2014; PackageReference: DPAK-3-369C-01; PackageDescription: 3-Pin Flange Mount, Body 6.54 x 6.095 mm, Pitch 2.29 mm; Supplier 1: Digi-Key; Supplier Part Number 1: MJD3055-ND; Packing: Tube; RoHS: FALSE; Mounting Technology: Surface Mount; ComponentLink1Description: Manufacturer URL; ComponentLink1URL: http://www.onsemi.com/; ComponentLink2Description: Datasheet; ComponentLink2URL: http://www.onsemi.cn/pub_link/Collateral/MJD2955-D.PDF; ComponentLink3Description: Package Specification; ComponentLink3URL: http://www.onsemi.cn/pub_link/Collateral/369C.PDF
footprint ONSC-DPAK-3-369C-01_V (DPAK, 3-Leads, Body 6.54x6.095mm, Pitch 2.29mm)
pins: 1 B, 3 E, 4 C